# Altium footprint library Synthiam-roundtrip2.PcbLib: 481 footprints (part 21 of 31)
Each footprint in its own frame and in the unit in brackets; x right, y up, seen from the top. Pads: shape width x height; smd on the part's side, far side on the other; paste and mask are expansions set on the pad; w line width, h text height; cw(c..) or ccw(c..) is an arc to the next point about the centre after c.
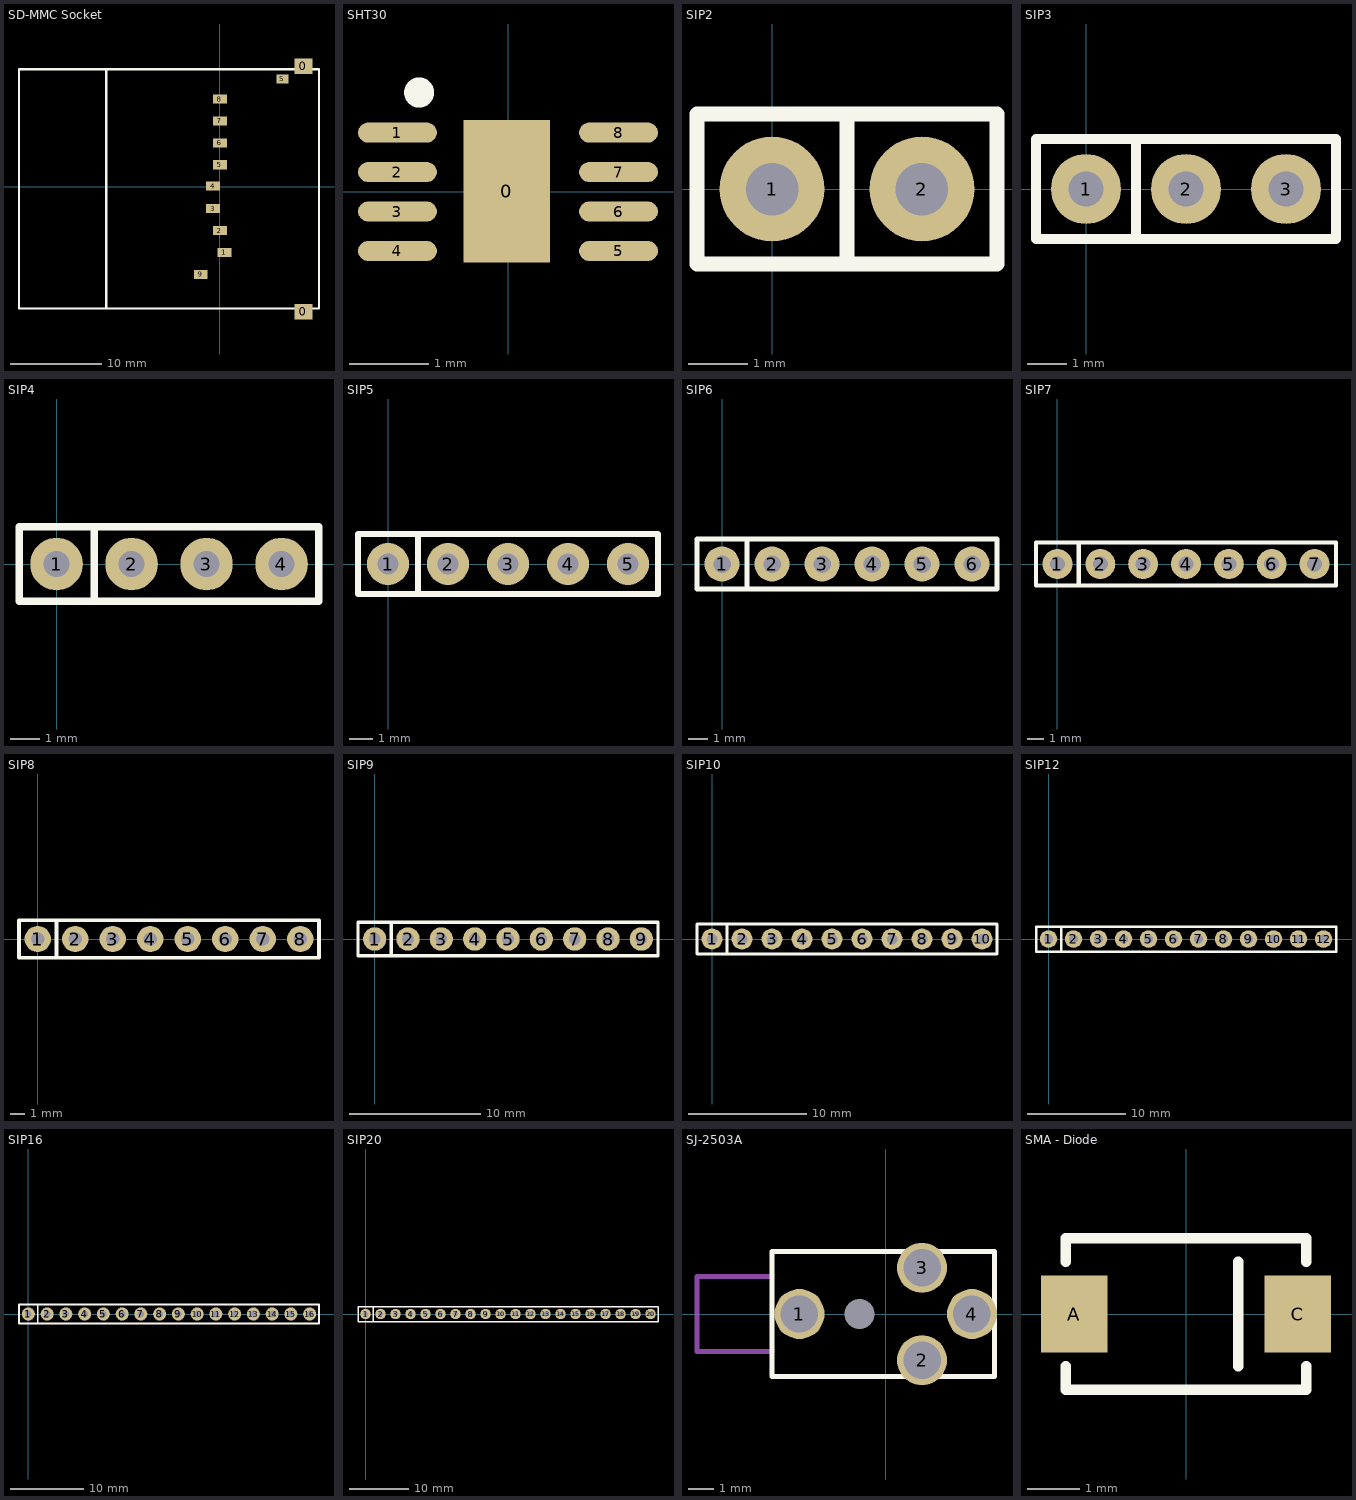
[diagram p20: the footprints below, top view; thin cyan lines are the x and y axes]

## SD-MMC Socket [mm]
pads (12):
  rect 2x1.7 smd: 0(9.15,-13.7) 0(9.15,13.2)
  rect 1.5x1 smd: 1(0.5,-7.2) 2(0,-4.8) 3(-0.75,-2.4) 4(-0.75,0.064) 5(0,2.4) 6(0,4.8) 7(0,7.2) 8(0,9.6) 9(-2.1,-9.6)
  rect 1.3x1 smd: S(6.85,11.8)
Top Overlay:
  lines w0.254: -12.45,-13.34 -12.45,12.86 ; -12.45,-13.34 10.85,-13.34 10.85,12.86 -12.45,12.86 ; -12.45,-13.34 -22,-13.34 -22,12.86 -12.45,12.86

## SHT30 [mm]
pads (9):
  rect 1.1x1.8 smd: 0(-0.015,0.007)
  rrect100% 1x0.254 smd: 1(-1.4,0.75) 2(-1.4,0.25) 3(-1.4,-0.25) 4(-1.4,-0.75) 5(1.4,-0.75) 6(1.4,-0.25) 7(1.4,0.25) 8(1.4,0.75)
Top Overlay:
  circle w0.254: c-1.125,1.257 r0.063

## SIP2 [mil]
pads (2):
  round 70 hole 35: 1(0,0) 2(100,0)
Top Overlay:
  lines w10: 50,-50 50,50 ; -50,-50 150,-50 150,50 -50,50 -50,-50

## SIP3 [mil]
pads (3):
  round 70 hole 35: 1(0,0) 2(100,0) 3(200,0)
Top Overlay:
  lines w10: 50,-50 50,50 ; -50,-50 -50,50 250,50 250,-50 -50,-50

## SIP4 [mil]
pads (4):
  round 70 hole 35: 1(0,0) 2(100,0) 3(200,0) 4(300,0)
Top Overlay:
  lines w10: 50,-50 50,50 ; -50,-50 350,-50 350,50 -50,50 -50,-50

## SIP5 [mil]
pads (5):
  round 70 hole 35: 1(0,0) 2(100,0) 3(200,0) 4(300,0) 5(400,0)
Top Overlay:
  lines w10: 50,-50 50,50 ; -50,-50 -50,50 450,50 450,-50 -50,-50

## SIP6 [mil]
pads (6):
  round 70 hole 35: 1(0,0) 2(100,0) 3(200,0) 4(300,0) 5(400,0) 6(500,0)
Top Overlay:
  lines w10: 50,-50 50,50 ; -50,-50 -50,50 550,50 550,-50 -50,-50

## SIP7 [mil]
pads (7):
  round 70 hole 35: 1(0,0) 2(100,0) 3(200,0) 4(300,0) 5(400,0) 6(500,0) 7(600,0)
Top Overlay:
  lines w10: 50,-50 50,50 ; -50,-50 -50,50 650,50 650,-50 -50,-50

## SIP8 [mil]
pads (8):
  round 70 hole 35: 1(0,0) 2(100,0) 3(200,0) 4(300,0) 5(400,0) 6(500,0) 7(600,0) 8(700,0)
Top Overlay:
  lines w10: 50,-50 50,50 ; -50,-50 -50,50 750,50 750,-50 -50,-50

## SIP9 [mil]
pads (9):
  round 70 hole 35: 1(0,0) 2(100,0) 3(200,0) 4(300,0) 5(400,0) 6(500,0) 7(600,0) 8(700,0) 9(800,0)
Top Overlay:
  lines w10: 50,-50 50,50 ; -50,-50 -50,50 850,50 850,-50 -50,-50

## SIP10 [mil]
pads (10):
  round 70 hole 35: 1(0,0) 2(100,0) 3(200,0) 4(300,0) 5(400,0) 6(500,0) 7(600,0) 8(700,0) 9(800,0) 10(900,0)
Top Overlay:
  lines w10: 50,-50 50,50 ; -50,-50 -50,50 950,50 950,-50 -50,-50

## SIP12 [mil]
pads (12):
  round 70 hole 35: 1(0,0) 2(100,0) 3(200,0) 4(300,0) 5(400,0) 6(500,0) 7(600,0) 8(700,0) 9(800,0) 10(900,0) 11(1000,0) 12(1100,0)
Top Overlay:
  lines w10: 50,-50 50,50 ; -50,-50 1150,-50 1150,50 -50,50 -50,-50

## SIP16 [mil]
pads (16):
  round 70 hole 35: 1(0,0) 2(100,0) 3(200,0) 4(300,0) 5(400,0) 6(500,0) 7(600,0) 8(700,0) 9(800,0) 10(900,0) 11(1000,0) 12(1100,0) 13(1200,0) 14(1300,0) 15(1400,0) 16(1500,0)
Top Overlay:
  lines w10: 50,-50 50,50 ; -50,-50 -50,50 1550,50 1550,-50 -50,-50

## SIP20 [mil]
pads (20):
  round 70 hole 35: 1(0,0) 2(100,0) 3(200,0) 4(300,0) 5(400,0) 6(500,0) 7(600,0) 8(700,0) 9(800,0) 10(900,0) 11(1000,0) 12(1100,0) 13(1200,0) 14(1300,0) 15(1400,0) 16(1500,0) 17(1600,0) 18(1700,0) 19(1800,0) 20(1900,0)
Top Overlay:
  lines w10: 50,-50 50,50 ; -50,-50 1950,-50 1950,50 -50,50 -50,-50

## SJ-2503A [mm]
pads (5):
  round 0 hole 1.2: 0(-1.05,0)
  round 2 hole 1.5: 1(-3.45,0) 2(1.45,-1.85) 3(1.45,1.85) 4(3.45,0)
Top Overlay:
  lines w0.2: -4.55,-2.5 4.35,-2.5 4.35,2.5 -4.55,2.5
  lines w0.203: -4.55,-2.5 -4.55,2.5
Mechanical 1:
  lines w0.203: -4.55,-1.5 -7.55,-1.5 -7.55,1.5 -4.55,1.5

## SMA - Diode [mm]
pads (2):
  rect 1.27x1.47 smd: A(-2.13,0) C(2.13,0)
Top Overlay:
  lines w0.203: -2.3,-1 -2.3,-1.45 2.3,-1.45 2.3,-1 ; -2.3,1 -2.3,1.45 2.3,1.45 2.3,1 ; 1,-1 1,1